# EAGLE library part J4 (library DSDEagleLibrary)
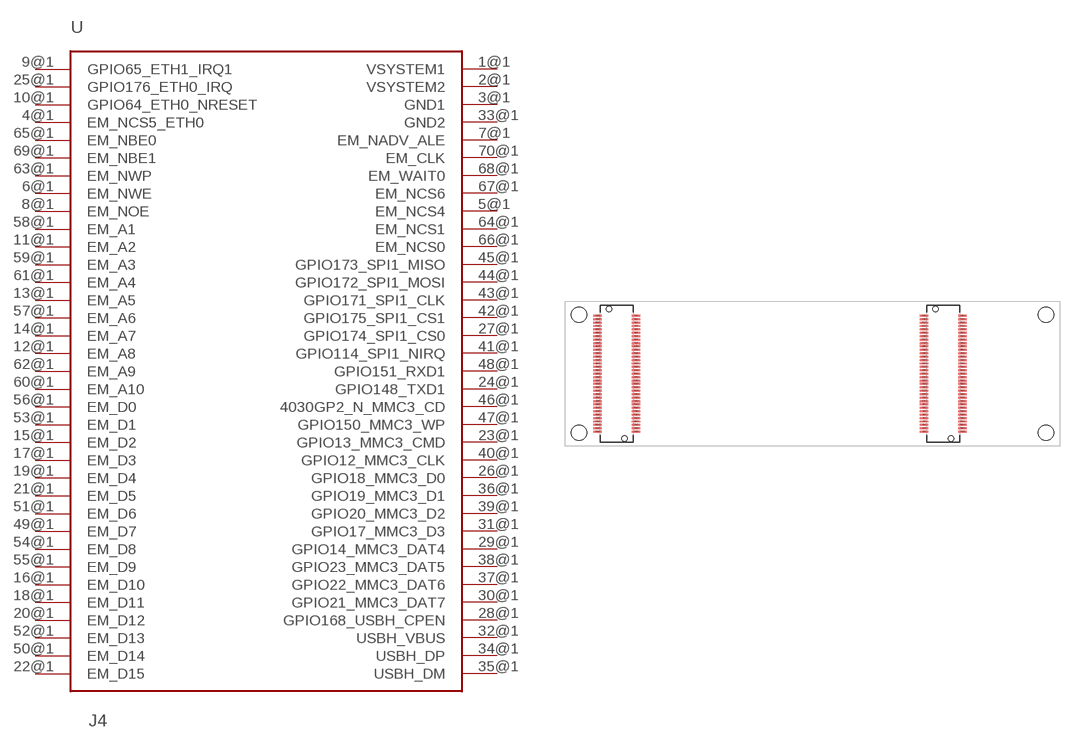
[diagram p52: symbol with the pads of OVERO; footprint OVERO]

Designator prefix -

## J4J4  [OVERO]
1@1  VSYSTEM1
2@1  VSYSTEM2
3@1  GND1
4@1  EM_NCS5_ETH0
5@1  EM_NCS4
6@1  EM_NWE
7@1  EM_NADV_ALE
8@1  EM_NOE
9@1  GPIO65_ETH1_IRQ1
10@1  GPIO64_ETH0_NRESET
11@1  EM_A2
12@1  EM_A8
13@1  EM_A5
14@1  EM_A7
15@1  EM_D2
16@1  EM_D10
17@1  EM_D3
18@1  EM_D11
19@1  EM_D4
20@1  EM_D12
21@1  EM_D5
22@1  EM_D15
23@1  GPIO13_MMC3_CMD
24@1  GPIO148_TXD1
25@1  GPIO176_ETH0_IRQ
26@1  GPIO18_MMC3_D0
27@1  GPIO174_SPI1_CS0
28@1  GPIO168_USBH_CPEN
29@1  GPIO14_MMC3_DAT4
30@1  GPIO21_MMC3_DAT7
31@1  GPIO17_MMC3_D3
32@1  USBH_VBUS
33@1  GND2
34@1  USBH_DP
35@1  USBH_DM
36@1  GPIO19_MMC3_D1
37@1  GPIO22_MMC3_DAT6
38@1  GPIO23_MMC3_DAT5
39@1  GPIO20_MMC3_D2
40@1  GPIO12_MMC3_CLK
41@1  GPIO114_SPI1_NIRQ
42@1  GPIO175_SPI1_CS1
43@1  GPIO171_SPI1_CLK
44@1  GPIO172_SPI1_MOSI
45@1  GPIO173_SPI1_MISO
46@1  4030GP2_N_MMC3_CD
47@1  GPIO150_MMC3_WP
48@1  GPIO151_RXD1
49@1  EM_D7
50@1  EM_D14
51@1  EM_D6
52@1  EM_D13
53@1  EM_D1
54@1  EM_D8
55@1  EM_D9
56@1  EM_D0
57@1  EM_A6
58@1  EM_A1
59@1  EM_A3
60@1  EM_A10
61@1  EM_A4
62@1  EM_A9
63@1  EM_NWP
64@1  EM_NCS1
65@1  EM_NBE0
66@1  EM_NCS0
67@1  EM_NCS6
68@1  EM_WAIT0
69@1  EM_NBE1
70@1  EM_CLK

## Footprint OVERO (pad centres in mm)
smd 1 x 0.23: 1@1 16.9,-6.8; 1@2 -16.9,6.8; 2@1 16.9,-6.4; 2@2 -16.9,6.4; 3@1 16.9,-6; 3@2 -16.9,6; 4@1 16.9,-5.6; 4@2 -16.9,5.6; 5@1 16.9,-5.2; 5@2 -16.9,5.2; 6@1 16.9,-4.8; 6@2 -16.9,4.8; 7@1 16.9,-4.4; 7@2 -16.9,4.4; 8@1 16.9,-4; 8@2 -16.9,4; 9@1 16.9,-3.6; 9@2 -16.9,3.6; 10@1 16.9,-3.2; 10@2 -16.9,3.2; 11@1 16.9,-2.8; 11@2 -16.9,2.8; 12@1 16.9,-2.4; 12@2 -16.9,2.4; 13@1 16.9,-2; 13@2 -16.9,2; 14@1 16.9,-1.6; 14@2 -16.9,1.6; 15@1 16.9,-1.2; 15@2 -16.9,1.2; 16@1 16.9,-0.8; 16@2 -16.9,0.8; 17@1 16.9,-0.4; 17@2 -16.9,0.4; 18@1 16.9,0; 18@2 -16.9,0; 19@1 16.9,0.4; 19@2 -16.9,-0.4; 20@1 16.9,0.8; 20@2 -16.9,-0.8; 21@1 16.9,1.2; 21@2 -16.9,-1.2; 22@1 16.9,1.6; 22@2 -16.9,-1.6; 23@1 16.9,2; 23@2 -16.9,-2; 24@1 16.9,2.4; 24@2 -16.9,-2.4; 25@1 16.9,2.8; 25@2 -16.9,-2.8; 26@1 16.9,3.2; 26@2 -16.9,-3.2; 27@1 16.9,3.6; 27@2 -16.9,-3.6; 28@1 16.9,4; 28@2 -16.9,-4; 29@1 16.9,4.4; 29@2 -16.9,-4.4; 30@1 16.9,4.8; 30@2 -16.9,-4.8; 31@1 16.9,5.2; 31@2 -16.9,-5.2; 32@1 16.9,5.6; 32@2 -16.9,-5.6; 33@1 16.9,6; 33@2 -16.9,-6; 34@1 16.9,6.4; 34@2 -16.9,-6.4; 35@1 16.9,6.8; 35@2 -16.9,-6.8; 36@1 21.4,6.8; 36@2 -21.4,-6.8; 37@1 21.4,6.4; 37@2 -21.4,-6.4; 38@1 21.4,6; 38@2 -21.4,-6; 39@1 21.4,5.6; 39@2 -21.4,-5.6; 40@1 21.4,5.2; 40@2 -21.4,-5.2; 41@1 21.4,4.8; 41@2 -21.4,-4.8; 42@1 21.4,4.4; 42@2 -21.4,-4.4; 43@1 21.4,4; 43@2 -21.4,-4; 44@1 21.4,3.6; 44@2 -21.4,-3.6; 45@1 21.4,3.2; 45@2 -21.4,-3.2; 46@1 21.4,2.8; 46@2 -21.4,-2.8; 47@1 21.4,2.4; 47@2 -21.4,-2.4; 48@1 21.4,2; 48@2 -21.4,-2; 49@1 21.4,1.6; 49@2 -21.4,-1.6; 50@1 21.4,1.2; 50@2 -21.4,-1.2; 51@1 21.4,0.8; 51@2 -21.4,-0.8; 52@1 21.4,0.4; 52@2 -21.4,-0.4; 53@1 21.4,0; 53@2 -21.4,0; 54@1 21.4,-0.4; 54@2 -21.4,0.4; 55@1 21.4,-0.8; 55@2 -21.4,0.8; 56@1 21.4,-1.2; 56@2 -21.4,1.2; 57@1 21.4,-1.6; 57@2 -21.4,1.6; 58@1 21.4,-2; 58@2 -21.4,2; 59@1 21.4,-2.4; 59@2 -21.4,2.4; 60@1 21.4,-2.8; 60@2 -21.4,2.8; 61@1 21.4,-3.2; 61@2 -21.4,3.2; 62@1 21.4,-3.6; 62@2 -21.4,3.6; 63@1 21.4,-4; 63@2 -21.4,4; 64@1 21.4,-4.4; 64@2 -21.4,4.4; 65@1 21.4,-4.8; 65@2 -21.4,4.8; 66@1 21.4,-5.2; 66@2 -21.4,5.2; 67@1 21.4,-5.6; 67@2 -21.4,5.6; 68@1 21.4,-6; 68@2 -21.4,6; 69@1 21.4,-6.4; 69@2 -21.4,6.4; 70@1 21.4,-6.8; 70@2 -21.4,6.8
hole 1.778 at -23.597,-6.909
hole 1.778 at -23.597,6.909
hole 1.778 at 31.191,6.909
hole 1.778 at 31.191,-6.909
hole 0.65 at -20.05,7.6
hole 0.65 at -18.25,-7.6
hole 0.65 at 18.25,7.6
hole 0.65 at 20.05,-7.6